# Altium footprint library PCB_Lib.PcbLib: 296 footprints (part 10 of 19)
Each footprint in its own frame and in the unit in brackets; x right, y up, seen from the top. Pads: shape width x height; smd on the part's side, far side on the other; paste and mask are expansions set on the pad; w line width, h text height; cw(c..) or ccw(c..) is an arc to the next point about the centre after c.
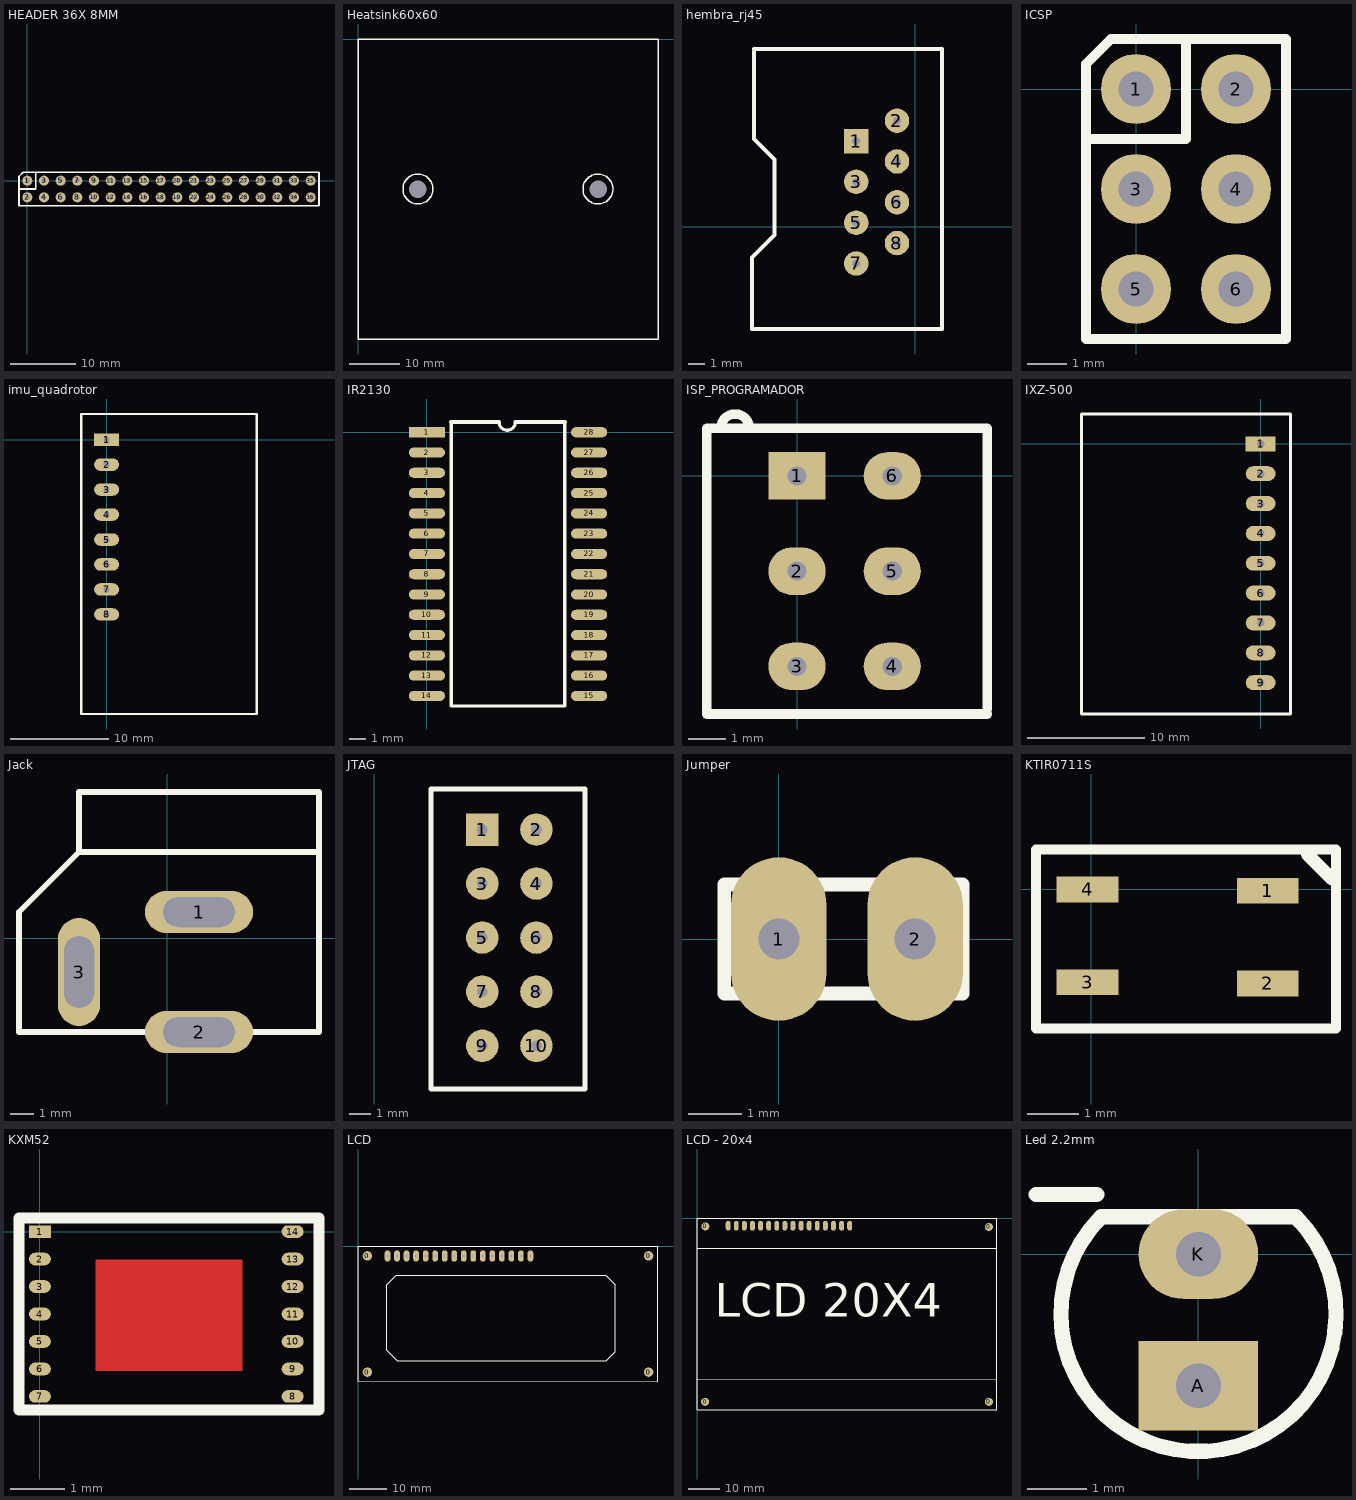
[diagram p9: the footprints below, top view; thin cyan lines are the x and y axes]

## HEADER 36X 8MM [mil] "Stackable 10 pin header"
pads (36):
  round 60 hole 30: 1(0,0) 2(0,-100) 3(100,0) 4(100,-100) 5(200,0) 6(200,-100) 7(300,0) 8(300,-100) 9(400,0) 10(400,-100) 11(500,0) 12(500,-100) 13(600,0) 14(600,-100) 15(700,0) 16(700,-100) 17(800,0) 18(800,-100) 19(900,-100) 20(900,0) 21(1000,0) 22(1000,-100) 23(1100,0) 24(1100,-100) 25(1200,0) 26(1200,-100) 27(1300,0) 28(1300,-100) 29(1400,0) 30(1400,-100) 31(1500,0) 32(1500,-100) 33(1600,0) 34(1600,-100) 35(1700,0) 36(1700,-100)
Top Overlay:
  lines w10: -50,-50 50,-50 50,50 ; -50,-150 1750,-150 1750,50 -25,50 -50,25 -50,-150
3D body "SIL_Socket36.stp": height 334.65, standoff -584.65, extent -50,-150 1750,50

## Heatsink60x60 [mm] "Holes 36mm appart"
height 16
pads (2):
  round 0 hole 3.5: 1(12,-30) 1(48,-30)
Top Overlay:
  circle w0.254: c48,-30 r3
  circle w0.254: c12,-30 r3
  lines w0.254: 0,-60 0,0 60,0 60,-60 0,-60

## hembra_rj45 [mil]
pads (8):
  rect 60x60 hole 20: 1(-145,210)
  round 60 hole 20: 2(-45,260) 3(-145,110) 4(-45,160) 5(-145,10) 6(-45,60) 7(-145,-90) 8(-45,-40)
Top Overlay:
  lines w10: -395,430 -395,215 -345,165 -345,-20 -400,-75 -400,-250 65,-250 65,435 -395,435
Multi-Layer:
  circle w34.8: c-200,435 r25
  circle w33.62: c-195,-250 r25

## ICSP [mil]
pads (6):
  round 70 hole 35.43: 1(0,0) 2(100,0) 3(0,-100) 4(100,-100) 5(0,-200) 6(100,-200)
Top Overlay:
  lines w10: -50,-50 50,-50 50,50 ; -50,-250 -50,25 -25,50 150,50 150,-250 -50,-250
3D body "ICSP.stp": height 484.65, standoff -105.84, extent -49.99,-249.99 150.01,50.01

## imu_quadrotor [mil] "U?"
pads (8):
  rect 100x50 hole 25: 1(0,0)
  oval 100x50 hole 25: 2(0,-100) 3(0,-200) 4(0,-300) 5(0,-400) 6(0,-500) 7(0,-600) 8(0,-700)
Top Overlay:
  lines w10: -101.38,-1098.43 601.38,-1098.43 601.38,102.36 -101.38,102.36 -101.38,-1098.43

## IR2130 [mil]
pads (28):
  rect 89.21x25 smd: 1(0,0)
  oval 89.21x25 smd: 2(0,-50) 3(0,-100) 4(0,-150) 5(0,-200) 6(0,-250) 7(0,-300) 8(0,-350) 9(0,-400) 10(0,-450) 11(0,-500) 12(0,-550) 13(0,-600) 14(0,-650) 15(400,-650) 16(400,-600) 17(400,-550) 18(400,-500) 19(400,-450) 20(400,-400) 21(400,-350) 22(400,-300) 23(400,-250) 24(400,-200) 25(400,-150) 26(400,-100) 27(400,-50) 28(400,0)
Top Overlay:
  lines w7.87: 60,25 60,-675 340,-675 340,25 ; 178,25 ccw(c198,25) 218,25
  lines w10: 60,25 178,25 ; 218,25 340,25

## ISP_PROGRAMADOR [mil]
pads (6):
  rect 60x50 hole 20: 1(0,0)
  oval 60x50 hole 20: 2(0,-100) 3(0,-200) 4(100,-200) 5(100,-100) 6(100,0)
Top Overlay:
  lines w10: -80,50 cw(c-65,50) -50,50 ; 25,50 200,50 ; 75,50 -95,50 -95,-250 200,-250 ; 200,50 200,-245 200,50

## IXZ-500 [mil]
pads (9):
  rect 100x50 hole 25: 1(0,0)
  oval 100x50 hole 25: 2(0,-100) 3(0,-200) 4(0,-300) 5(0,-400) 6(0,-500) 7(0,-600) 8(0,-700) 9(0,-800)
Top Overlay:
  lines w10: -600,-905 -600,100 100,100 100,-905 -105,-905 -600,-905

## Jack [mil]
pads (3):
  oval 180x70 hole 50 slot 120 at 0 deg: 1(53,44) 2(53,-156)
  oval 70x180 hole 50 slot 120 at 90 deg: 3(-147,-56)
Top Overlay:
  lines w10: 253,144 -147,144 ; -147,144 -147,244 253,244 253,-156 -247,-156 -247,44 -147,144

## JTAG [mil]
height 100
pads (10):
  rect 60x60 hole 20: 1(200,-200)
  round 60 hole 20: 2(300,-200) 3(200,-300) 4(300,-300) 5(200,-400) 6(300,-400) 7(200,-500) 8(300,-500) 9(200,-600) 10(300,-600)
Top Overlay:
  lines w10: 105,-680 105,-125 390,-125 390,-680 105,-680

## Jumper [mil]
pads (2):
  oval 70x120 hole 30: 1(0,0) 2(100,0)
Top Overlay:
  lines w10: -40,-40 -40,40 135,40 135,-40 -40,-40

## KTIR0711S [mm]
pads (4):
  rect 1.2x0.5 smd: 1(3.425,-0.025) 2(3.425,-1.825) 3(-0.075,-1.8) 4(-0.075,0)
Top Overlay:
  lines w0.2: -1.075,-2.7 4.75,-2.7 4.75,0.775 -1.075,0.775 -1.075,-2.7
  lines w0.254: 4.2,0.675 4.675,0.2

## KXM52 [mm]
pads (14):
  rect 0.4x0.23 smd: 1(0,0)
  oval 0.4x0.23 smd: 2(0,-0.5) 3(0,-1) 4(0,-1.5) 5(0,-2) 6(0,-2.5) 7(0,-3) 8(4.6,-3) 9(4.6,-2.5) 10(4.6,-2) 11(4.6,-1.5) 12(4.6,-1) 13(4.6,-0.5) 14(4.6,0)
Top Layer:
  rectangle: 1.016,-2.54 3.683,-0.508
Top Overlay:
  lines w0.2: -0.381,-3.25 -0.381,0.25 2.175,0.25 5.08,0.25 5.08,-3.25 -0.381,-3.25

## LCD [mil] "16x2"
pads (20):
  round 98.42 hole 20: 0(98.42,-1318.9) 0(98.42,-98.42)
  round 98.43 hole 20: 0(3051.18,-1318.9) 0(3051.18,-98.42)
  oval 60x120 hole 20: 1(310,-100) 2(410,-100) 3(510,-100) 4(610,-100) 5(710,-100) 6(810,-100) 7(910,-100) 8(1010,-100) 9(1110,-100) 10(1210,-100) 11(1310,-100) 12(1410,-100) 13(1510,-100) 14(1610,-100) 15(1710,-100) 16(1810,-100)
Top Overlay:
  lines w10: 0,-1417.32 0,0 3149.61,0 3149.61,-1417.32 0,-1417.32 ; 300,-1090 300,-400 400,-300 2600,-300 2700,-400 2700,-1105 2605,-1200 410,-1200 300,-1090

## LCD - 20x4 [mil] "20x4"
pads (20):
  round 98.42 hole 20: 0(95,-2265) 0(98.42,-98.42)
  round 98.43 hole 20: 0(3600,-2265) 0(3600,-105)
  oval 60x120 hole 20: 1(380,-90) 2(480,-90) 3(580,-90) 4(680,-90) 5(780,-90) 6(880,-90) 7(980,-90) 8(1080,-90) 9(1180,-90) 10(1280,-90) 11(1380,-90) 12(1480,-90) 13(1580,-90) 14(1680,-90) 15(1780,-90) 16(1880,-90)
Top Overlay:
  lines w10: -5,-365 3700,-365 ; 5.03,-1985 3700,-1980 ; 0,-2360 3700,-2360 3700,0 0,0 0,-2360
  text "LCD 20X4" at 215,-1215 h414.33

## Led 2.2mm [mm] "no está modificado"
height 1.27
pads (2):
  rect 2x1.5 hole 0.75: A(0,-2.2)
  oval 2x1.5 hole 0.75: K(0,0)
Top Overlay:
  lines w0.254: -2.716,1 -1.7,1 ; -1.626,0.626 ccw(c0,-1) 1.626,0.626 -1.626,0.626